# Altium schematic symbol library Memory Flash.SchLib: 3 symbols
Pins are listed as number, name and electrical type; pins without a type are passive.

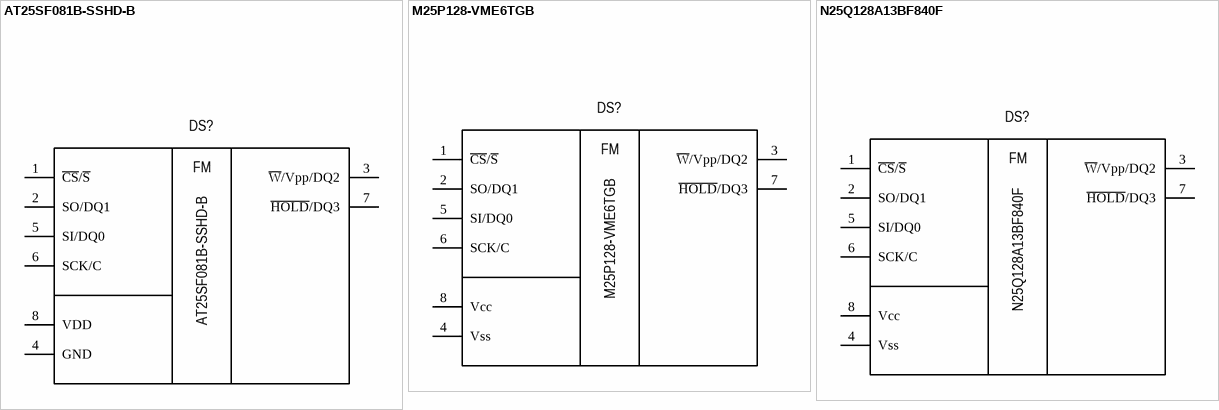
[diagram p0: symbols AT25SF081B-SSHD-B to N25Q128A13BF840F]

## AT25SF081B-SSHD-B
designator DS?
Memory Flash 8M (1M x 8); Manufacturer: Adesto Technologies; Group: Digital; Frequency: 108MHz; Voltage Supply: 2.5V - 3.6V; Interface: SPI; Package: SOIC-8; Part name: AT25SF081B-SSHD-B; Operating Temperature: -40°C +85°C; Height: 2.16mm; Dimension: 8.26mm x 5.35mm; Type: Flash; Size: 8Mb (1M x 8); Mounting Type: Surface Mount
footprint SOIC-8N
pins: 1 ~{CS}/~{S} "Chip Select", 2 SO/DQ1 "Serial Data output", 3 ~{W}/Vpp/DQ2 "Write Protect/Enhanced Program supply voltage/additional data I/O", 4 GND "Ground", 5 SI/DQ0 "Serial Data input", 6 SCK/C "Serial Clock", 7 ~{HOLD}/DQ3 "Hold (Reset function available upon customer request)/additional data I/O", 8 VDD
text: FM

## M25P128-VME6TGB
designator DS?
Memory Flash 128M (16M x 8); Manufacturer: Micron Technology; Group: Digital - Memory - Flash; Frequency: 54MHz; Voltage Supply: 2.7V - 3.6V; Interface: SPI; Package: 8-VDFN (8x6); Part name: M25P128-VME6TGB; Operating Temperature: -40°C +85°C; Thickness: 0.85mm; Dimension: 8.00mm x 6.00mm; Type: Flash; Size: 128Mb (16M x 8); Mounting Type: Surface Mount
footprint VDFPN-8 (8x6)
pins: 1 ~{CS}/~{S} "Chip Select", 2 SO/DQ1 "Serial Data output", 3 ~{W}/Vpp/DQ2 "Write Protect/Enhanced Program supply voltage/additional data I/O", 4 Vss "Ground", 5 SI/DQ0 "Serial Data input", 6 SCK/C "Serial Clock", 7 ~{HOLD}/DQ3 "Hold (Reset function available upon customer request)/additional data I/O", 8 Vcc
text: FM

## N25Q128A13BF840F
designator DS?
Memory Flash 128M (16M x 8); Manufacturer: Micron Technology; Group: Digital - Memory - Flash; Frequency: 108MHz; Voltage Supply: 2.7V - 3.6V; Interface: SPI; Package: 8-VDFN (8x6); Part name: N25Q128A13BF840F; Operating Temperature: -40°C +85°C; Thickness: 0.85mm; Dimension: 8.00mm x 6.00mm; Type: Flash; Size: 128Mb (16M x 8); Mounting Type: Surface Mount
footprint VDFPN-8 (8x6)
pins: 1 ~{CS}/~{S} "Chip Select", 2 SO/DQ1 "Serial Data output", 3 ~{W}/Vpp/DQ2 "Write Protect/Enhanced Program supply voltage/additional data I/O", 4 Vss "Ground", 5 SI/DQ0 "Serial Data input", 6 SCK/C "Serial Clock", 7 ~{HOLD}/DQ3 "Hold (Reset function available upon customer request)/additional data I/O", 8 Vcc
text: FM